# EAGLE library part USB-MINIB-BO (library hs-ul)
USB MiniB-Buchse Oberflächenmontage (Zwei Varianten zur Kantenmontage)
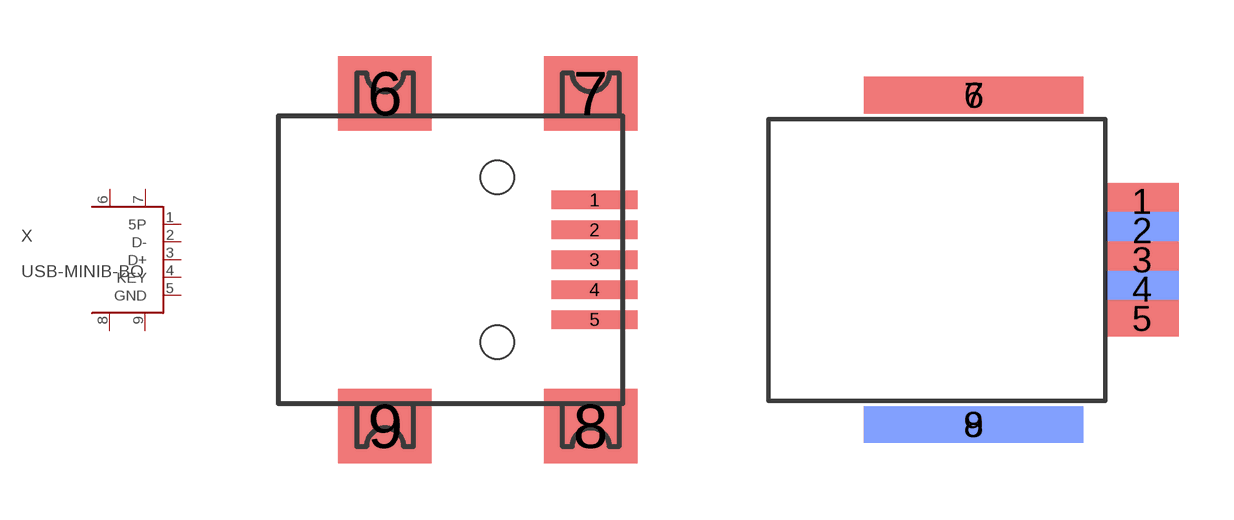
[diagram p0: symbol with the pads of USB-MINIB-BO; footprints USB-MINIB-BO, USB-MINIB-BU-E]

Designator prefix X

## USB-MINIB-BO  [USB-MINIB-BO]
1  5P  sup
2  D-
3  D+
4  KEY
5  GND  pwr
6  GND  pwr
7  GND  pwr
8  GND  pwr
9  GND  pwr

## USB-MINIB-BO-E  [USB-MINIB-BU-E]
Pads as for USB-MINIB-BO

## USB-MINIB-BO-U  [USB-MINIB-BU]
Pads as for USB-MINIB-BO

## Footprint USB-MINIB-BO (pad centres in mm)
USB-MiniB-Buchse Oberflächenmontage (regulär)
smd 2.3 x 0.5: 1 7.85,1.6; 2 7.85,0.8; 3 7.85,0; 4 7.85,-0.8; 5 7.85,-1.6
smd 2.5 x 2: 6 2.25,4.45; 7 7.75,4.45; 8 7.75,-4.45; 9 2.25,-4.45
hole 0.9 at 5.25,2.2
hole 0.9 at 5.25,-2.2

## Footprint USB-MINIB-BU-E (pad centres in mm)
USB-MiniB-Buchse Durchsteckmontage irregulär als Kantenmontage in Leiterplattenausschnitt
smd 2 x 1: 1 9.6,1.6; 3 9.6,0; 5 9.6,-1.6
smd 2 x 1 bottom: 2 9.6,0.8; 4 9.6,-0.8
smd 6 x 1 bottom: 6 5,4.5; 9 5,-4.5
smd 6 x 1: 7 5,4.5; 8 5,-4.5

## Footprint USB-MINIB-BU (pad centres in mm)
USB-MiniB-Buchse Oberflächenmontage irregulär von unten in Leiterplatten-Ausschnitt
smd 2.3 x 0.5 bottom: 1 7.85,1.6; 2 7.85,0.8; 3 7.85,0; 4 7.85,-0.8; 5 7.85,-1.6
smd 2.5 x 2 bottom: 6 2.25,4.45; 7 7.75,4.45; 8 7.75,-4.45; 9 2.25,-4.45